# EAGLE library part LM324 (library Custom_old)
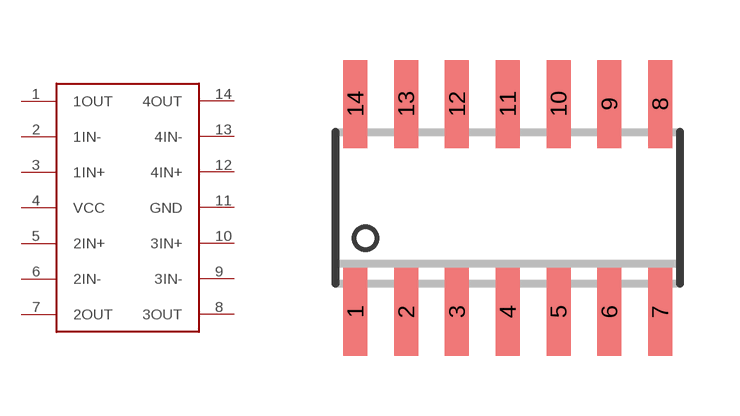
[diagram p30: symbol with the pads of SOIC14; footprint SOIC14]

Designator prefix -

## LM324  [SOIC14]
1  1OUT
2  1IN-
3  1IN+
4  VCC
5  2IN+
6  2IN-
7  2OUT
8  3OUT
9  3IN-
10  3IN+
11  GND
12  4IN+
13  4IN-
14  4OUT

## Footprint SOIC14 (pad centres in mm)
14-Lead Narrow-Body SOIC (SO-14) Source: http://www.analog.com/static/imported-files/data_sheets/SSM2166.pdf
smd 0.6 x 2.2: 1 -3.81,-2.6; 2 -2.54,-2.6; 3 -1.27,-2.6; 4 0,-2.6; 5 1.27,-2.6; 6 2.54,-2.6; 7 3.81,-2.6; 8 3.81,2.6; 9 2.54,2.6; 10 1.27,2.6; 11 0,2.6; 12 -1.27,2.6; 13 -2.54,2.6; 14 -3.81,2.6